# Altium footprint library Strain.PcbLib: 32 footprints (part 2 of 2)
Each footprint in its own frame and in the unit in brackets; x right, y up, seen from the top. Pads: shape width x height; smd on the part's side, far side on the other; paste and mask are expansions set on the pad; w line width, h text height; cw(c..) or ccw(c..) is an arc to the next point about the centre after c.
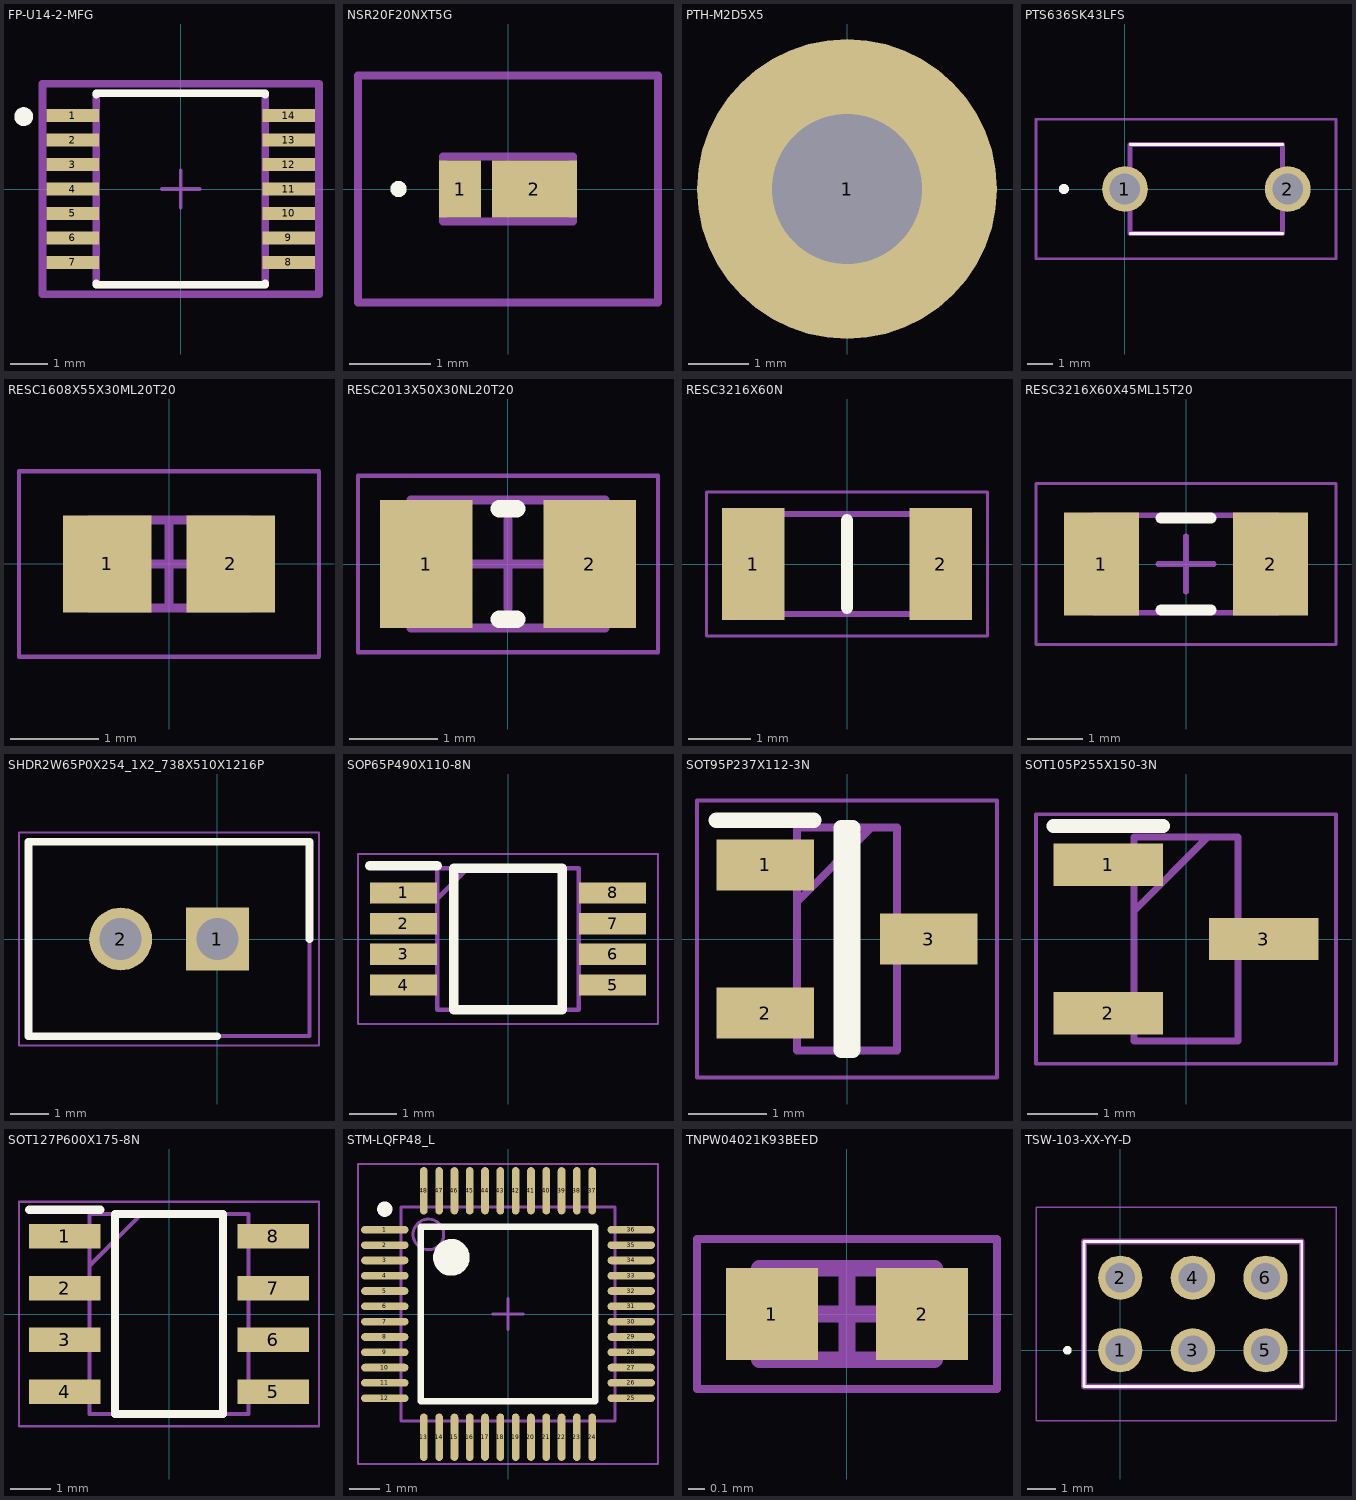
[diagram p1: the footprints below, top view; thin cyan lines are the x and y axes]

## FP-U14-2-MFG [mm]
pads (14):
  rect 1.4x0.35 smd paste+0 mask+0: 1(-2.875,1.95) 2(-2.875,1.3) 3(-2.875,0.65) 4(-2.875,0) 5(-2.875,-0.65) 6(-2.875,-1.3) 7(-2.875,-1.95) 8(2.875,-1.95) 9(2.875,-1.3) 10(2.875,-0.65) 11(2.875,0) 12(2.875,0.65) 13(2.875,1.3) 14(2.875,1.95)
Top Overlay:
  circle w0.25: c-4.175,1.925 r0.125
  lines w0.2: -2.25,-2.5 -2.25,-2.55 2.25,-2.55 2.25,-2.5 ; -2.25,2.5 -2.25,2.55 2.25,2.55 2.25,2.5
Top 3D Body:
  lines w0.2: -2.25,-2.55 2.25,-2.55 2.25,2.55 -2.25,2.55 -2.25,-2.55
Top Courtyard:
  lines w0.2: -3.675,-2.8 3.675,-2.8 3.675,2.8 -3.675,2.8 -3.675,-2.8
Top Assembly:
  lines w0.2: -3.675,-2.8 3.675,-2.8 3.675,2.8 -3.675,2.8 -3.675,-2.8
  text ".Designator" at -2.032,0.188 h1
Top Component Center:
  lines w0.1: -0.5,0 0.5,0 ; 0,-0.5 0,0.5

## NSR20F20NXT5G [mm]
pads (2):
  rect 0.52x0.7 smd: 1(-0.59,0)
  rect 1.05x0.7 smd: 2(0.325,0)
Top Overlay:
  lines w0.1: -1.4,0 ccw(c-1.35,0) -1.3,0 ccw(c-1.35,0) -1.4,0
Mechanical 13:
  lines w0.1: -0.8,-0.4 -0.8,0.4 0.8,0.4 0.8,-0.4 -0.8,-0.4
Mechanical 15:
  lines w0.1: -1.85,-1.4 -1.85,1.4 1.85,1.4 1.85,-1.4 -1.85,-1.4
3D body "NSR20F20NXT5G.stp": height 0.41, standoff 0, extent -0.8,-0.4 0.8,0.4

## PTH-M2D5X5 [mm]
pads (1):
  round 5 hole 2.5: 1(0,0)
Top Designator:
  text ".Designator" at -1.397,2.921 h0.6

## PTS636SK43LFS [mm]
pads (2):
  round 1.8 hole 1.2: 1(0,0) 2(6.4,0)
Top Overlay:
  lines w0.1: 0.2,-1.75 6.2,-1.75 ; 0.2,1.75 6.2,1.75
  lines w0.2: -2.5,0 ccw(c-2.4,0) -2.3,0 ccw(c-2.4,0) -2.5,0
Mechanical 13:
  lines w0.2: 0.2,-1.75 6.2,-1.75 6.2,1.75 0.2,1.75 0.2,-1.75
Mechanical 15:
  lines w0.1: -3.5,-2.75 8.3,-2.75 8.3,2.75 -3.5,2.75 -3.5,-2.75
3D body "PTS636_SK43_LFS.stp": height 4.6, standoff -5, extent -0.496,-1.75 6.9,1.75

## RESC1608X55X30ML20T20 [mm] "Chip Resistor, 2-Leads, Body 1.60x0.80mm, IPC Low Density"
height 0.55
pads (2):
  rect 1x1.1 smd: 1(-0.7,0) 2(0.7,0)
Mechanical 13:
  lines w0.1: -0.9,-0.5 0.9,-0.5 0.9,0.5 -0.9,0.5 -0.9,-0.5
Mechanical 15:
  lines w0.05: -1.7,-1.05 1.7,-1.05 1.7,1.05 -1.7,1.05 -1.7,-1.05
  lines w0.1: -0.5,0 0.5,0 ; 0,-0.5 0,0.5
3D body: height 0.55, standoff 0, extent 0.6,-0.5 0.9,0.5
3D body: height 0.55, standoff 0, extent -0.9,-0.5 -0.6,0.5
3D body: height 0.55, standoff 0, extent -0.6,-0.5 0.6,0.5

## RESC2013X50X30NL20T20 [mm] "Chip Resistor, 2-Leads, Body 2.00x1.25mm, IPC Medium Density"
height 0.5
pads (2):
  rect 1.05x1.45 smd: 1(-0.925,0) 2(0.925,0)
Top Overlay:
  lines w0.2: -0.1,-0.625 0.1,-0.625 ; -0.1,0.625 0.1,0.625
Mechanical 13:
  lines w0.1: -1.1,-0.725 1.1,-0.725 1.1,0.725 -1.1,0.725 -1.1,-0.725
Mechanical 15:
  lines w0.05: -1.7,-1 1.7,-1 1.7,1 -1.7,1 -1.7,-1
  lines w0.1: -0.5,0 0.5,0 ; 0,-0.5 0,0.5
3D body: height 0.5, standoff 0, extent 0.8,-0.725 1.1,0.725
3D body: height 0.5, standoff 0, extent -1.1,-0.725 -0.8,0.725
3D body: height 0.5, standoff 0, extent -0.8,-0.725 0.8,0.725

## RESC3216X60N [mm]
pads (2):
  rect 1x1.8 smd: 1(-1.5,0) 2(1.5,0)
Top Overlay:
  lines w0.2: 0,-0.7 0,0.7
Mechanical 13:
  lines w0.1: -1.575,-0.8 1.575,-0.8 1.575,0.8 -1.575,0.8 -1.575,-0.8
Mechanical 15:
  lines w0.05: -2.25,-1.15 2.25,-1.15 2.25,1.15 -2.25,1.15 -2.25,-1.15
3D body "CRCW120660R0KNEAIF.stp": height 0.6, standoff 0, extent -1.575,-0.8 1.575,0.8

## RESC3216X60X45ML15T20 [mm] "Chip Resistor, 2-Leads, Body 3.3x1.75mm, IPC Low Density"
height 0.6
pads (2):
  rect 1.35x1.85 smd: 1(-1.525,0) 2(1.525,0)
Top Overlay:
  lines w0.2: -0.45,-0.825 0.45,-0.825 ; -0.45,0.825 0.45,0.825
Mechanical 13:
  lines w0.1: -1.65,-0.875 1.65,-0.875 1.65,0.875 -1.65,0.875 -1.65,-0.875
Mechanical 15:
  lines w0.05: -2.7,-1.45 2.7,-1.45 2.7,1.45 -2.7,1.45 -2.7,-1.45
  lines w0.1: -0.5,0 0.5,0 ; 0,-0.5 0,0.5
3D body "RESC3116X06M.step": height 0.6, standoff 0, extent -1.65,-0.875 1.65,0.875

## SHDR2W65P0X254_1X2_738X510X1216P [mm]
pads (2):
  rect 1.65x1.65 hole 1.1: 1(0,0)
  round 1.65 hole 1.1: 2(-2.54,0)
Top Overlay:
  lines w0.2: 0,-2.55 -4.96,-2.55 -4.96,2.55 2.42,2.55 2.42,0
Mechanical 13:
  lines w0.1: -4.96,-2.55 -4.96,2.55 2.42,2.55 2.42,-2.55 -4.96,-2.55
Mechanical 15:
  lines w0.05: -5.21,-2.8 -5.21,2.8 2.67,2.8 2.67,-2.8 -5.21,-2.8
3D body "171971-0002.stp": height 12.16, standoff -3.3, extent -4.96,-2.55 2.42,2.55

## SOP65P490X110-8N [mm]
pads (8):
  rect 1.425x0.45 smd: 1(-2.212,0.975) 2(-2.212,0.325) 3(-2.212,-0.325) 4(-2.212,-0.975) 5(2.212,-0.975) 6(2.212,-0.325) 7(2.212,0.325) 8(2.212,0.975)
Top Overlay:
  lines w0.2: -2.925,1.55 -1.5,1.55 ; -1.15,-1.5 1.15,-1.5 1.15,1.5 -1.15,1.5 -1.15,-1.5
Mechanical 13:
  lines w0.1: -1.5,0.85 -0.85,1.5 ; -1.5,-1.5 1.5,-1.5 1.5,1.5 -1.5,1.5 -1.5,-1.5
Mechanical 15:
  lines w0.05: -3.175,-1.8 3.175,-1.8 3.175,1.8 -3.175,1.8 -3.175,-1.8
3D body "PCA9540BDP_Q900J.stp": height 1.1, standoff 0, extent -2.45,-1.5 2.45,1.5

## SOT95P237X112-3N [mm]
pads (3):
  rect 1.25x0.65 smd: 1(-1.05,0.95) 2(-1.05,-0.95) 3(1.05,0)
Top Overlay:
  lines w0.2: -1.675,1.525 -0.425,1.525 ; -0.075,-1.43 -0.075,1.43 0.075,1.43 0.075,-1.43 -0.075,-1.43
Mechanical 13:
  lines w0.1: -0.64,0.48 0.31,1.43 ; -0.64,-1.43 -0.64,1.43 0.64,1.43 0.64,-1.43 -0.64,-1.43
Mechanical 15:
  lines w0.05: -1.925,-1.775 -1.925,1.775 1.925,1.775 1.925,-1.775 -1.925,-1.775
3D body "MCP1799T-3302H_TT.stp": height 1.12, standoff 0, extent -1.185,-1.43 1.185,1.43

## SOT105P255X150-3N [mm]
pads (3):
  rect 1.55x0.6 smd: 1(-1.1,1.05) 2(-1.1,-1.05) 3(1.1,0)
Top Overlay:
  lines w0.2: -1.875,1.6 -0.325,1.6
Mechanical 13:
  lines w0.1: -0.738,0.398 0.312,1.448 ; -0.738,-1.448 0.738,-1.448 0.738,1.448 -0.738,1.448 -0.738,-1.448
Mechanical 15:
  lines w0.05: -2.125,-1.77 2.125,-1.77 2.125,1.77 -2.125,1.77 -2.125,-1.77

## SOT127P600X175-8N [mm]
pads (8):
  rect 1.75x0.6 smd: 1(-2.55,1.905) 2(-2.55,0.635) 3(-2.55,-0.635) 4(-2.55,-1.905) 5(2.55,-1.905) 6(2.55,-0.635) 7(2.55,0.635) 8(2.55,1.905)
Top Overlay:
  lines w0.2: -3.425,2.555 -1.675,2.555 ; -1.325,-2.452 1.325,-2.452 1.325,2.452 -1.325,2.452 -1.325,-2.452
Mechanical 13:
  lines w0.1: -1.948,1.182 -0.678,2.452 ; -1.948,-2.452 1.948,-2.452 1.948,2.452 -1.948,2.452 -1.948,-2.452
Mechanical 15:
  lines w0.05: -3.675,-2.75 3.675,-2.75 3.675,2.75 -3.675,2.75 -3.675,-2.75
3D body "SN65HVD230DR.stp": height 1.75, standoff 0, extent -2.997,-2.452 2.997,2.452

## STM-LQFP48_L [mm] "QFP, 48-Leads, Body 7x7mm, Pitch 0.5mm, IPC High Density"
height 1.6
pads (48):
  oval 1.55x0.25 smd: 1(-4.025,2.75) 2(-4.025,2.25) 3(-4.025,1.75) 4(-4.025,1.25) 5(-4.025,0.75) 6(-4.025,0.25) 7(-4.025,-0.25) 8(-4.025,-0.75) 9(-4.025,-1.25) 10(-4.025,-1.75) 11(-4.025,-2.25) 12(-4.025,-2.75) 25(4.025,-2.75) 26(4.025,-2.25) 27(4.025,-1.75) 28(4.025,-1.25) 29(4.025,-0.75) 30(4.025,-0.25) 31(4.025,0.25) 32(4.025,0.75) 33(4.025,1.25) 34(4.025,1.75) 35(4.025,2.25) 36(4.025,2.75)
  oval 0.25x1.55 smd: 13(-2.75,-4.025) 14(-2.25,-4.025) 15(-1.75,-4.025) 16(-1.25,-4.025) 17(-0.75,-4.025) 18(-0.25,-4.025) 19(0.25,-4.025) 20(0.75,-4.025) 21(1.25,-4.025) 22(1.75,-4.025) 23(2.25,-4.025) 24(2.75,-4.025) 37(2.75,4.025) 38(2.25,4.025) 39(1.75,4.025) 40(1.25,4.025) 41(0.75,4.025) 42(0.25,4.025) 43(-0.25,4.025) 44(-0.75,4.025) 45(-1.25,4.025) 46(-1.75,4.025) 47(-2.25,4.025) 48(-2.75,4.025)
Top Overlay:
  circle w0.25: c-4.025,3.425 r0.125
  circle w0.6: c-1.85,1.85 r0.3
  lines w0.2: -2.85,-2.85 -2.85,2.85 2.85,2.85 2.85,-2.85 -2.85,-2.85
Mechanical 13:
  circle w0.1: c-2.6,2.6 r0.5
  lines w0.1: -3.5,-3.5 -3.5,3.5 3.5,3.5 3.5,-3.5 -3.5,-3.5
Mechanical 15:
  lines w0.05: -4.9,-4.9 -4.9,4.9 4.9,4.9 4.9,-4.9 -4.9,-4.9
  lines w0.1: -0.5,0 0.5,0 ; 0,-0.5 0,0.5
3D body: height 1.6, standoff 0.05, extent -3.5,-3.5 3.5,3.5

## TNPW04021K93BEED [mm] "Chip Resistor, 2-Leads, Body 1,00x0,50mm, IPC Medium Density"
height 0.35
pads (2):
  rect 0.55x0.55 smd: 1(-0.45,0) 2(0.45,0)
Mechanical 13:
  lines w0.1: -0.525,-0.275 0.525,-0.275 0.525,0.275 -0.525,0.275 -0.525,-0.275
Mechanical 15:
  lines w0.05: -0.9,-0.45 0.9,-0.45 0.9,0.45 -0.9,0.45 -0.9,-0.45
  lines w0.1: -0.275,0 0.275,0 ; 0,-0.275 0,0.275
3D body: height 0.35, standoff 0, extent 0.325,-0.275 0.525,0.275
3D body: height 0.35, standoff 0, extent -0.525,-0.275 -0.325,0.275
3D body: height 0.35, standoff 0, extent -0.325,-0.275 0.325,0.275

## TSW-103-XX-YY-D [mm]
pads (6):
  round 1.55 hole 1.02: 1(0,0) 2(0,2.54) 3(2.54,0) 4(2.54,2.54) 5(5.08,0) 6(5.08,2.54)
Top Overlay:
  circle w0.2: c-1.85,0 r0.05
  lines w0.1: -1.27,-1.27 6.35,-1.27 6.35,3.81 -1.27,3.81 -1.27,-1.27
Mechanical 13:
  lines w0.2: -1.27,-1.27 6.35,-1.27 6.35,3.81 -1.27,3.81 -1.27,-1.27
Mechanical 15:
  lines w0.05: -2.95,-2.47 7.55,-2.47 7.55,5.01 -2.95,5.01 -2.95,-2.47
3D body "TSW-103-14-T-D.stp": height 10.17, standoff -3.29, extent -1.255,-1.382 6.365,3.698